# Altium footprint library JP.PcbLib: 182 footprints (part 2 of 12)
Each footprint in its own frame and in the unit in brackets; x right, y up, seen from the top. Pads: shape width x height; smd on the part's side, far side on the other; paste and mask are expansions set on the pad; w line width, h text height; cw(c..) or ccw(c..) is an arc to the next point about the centre after c.
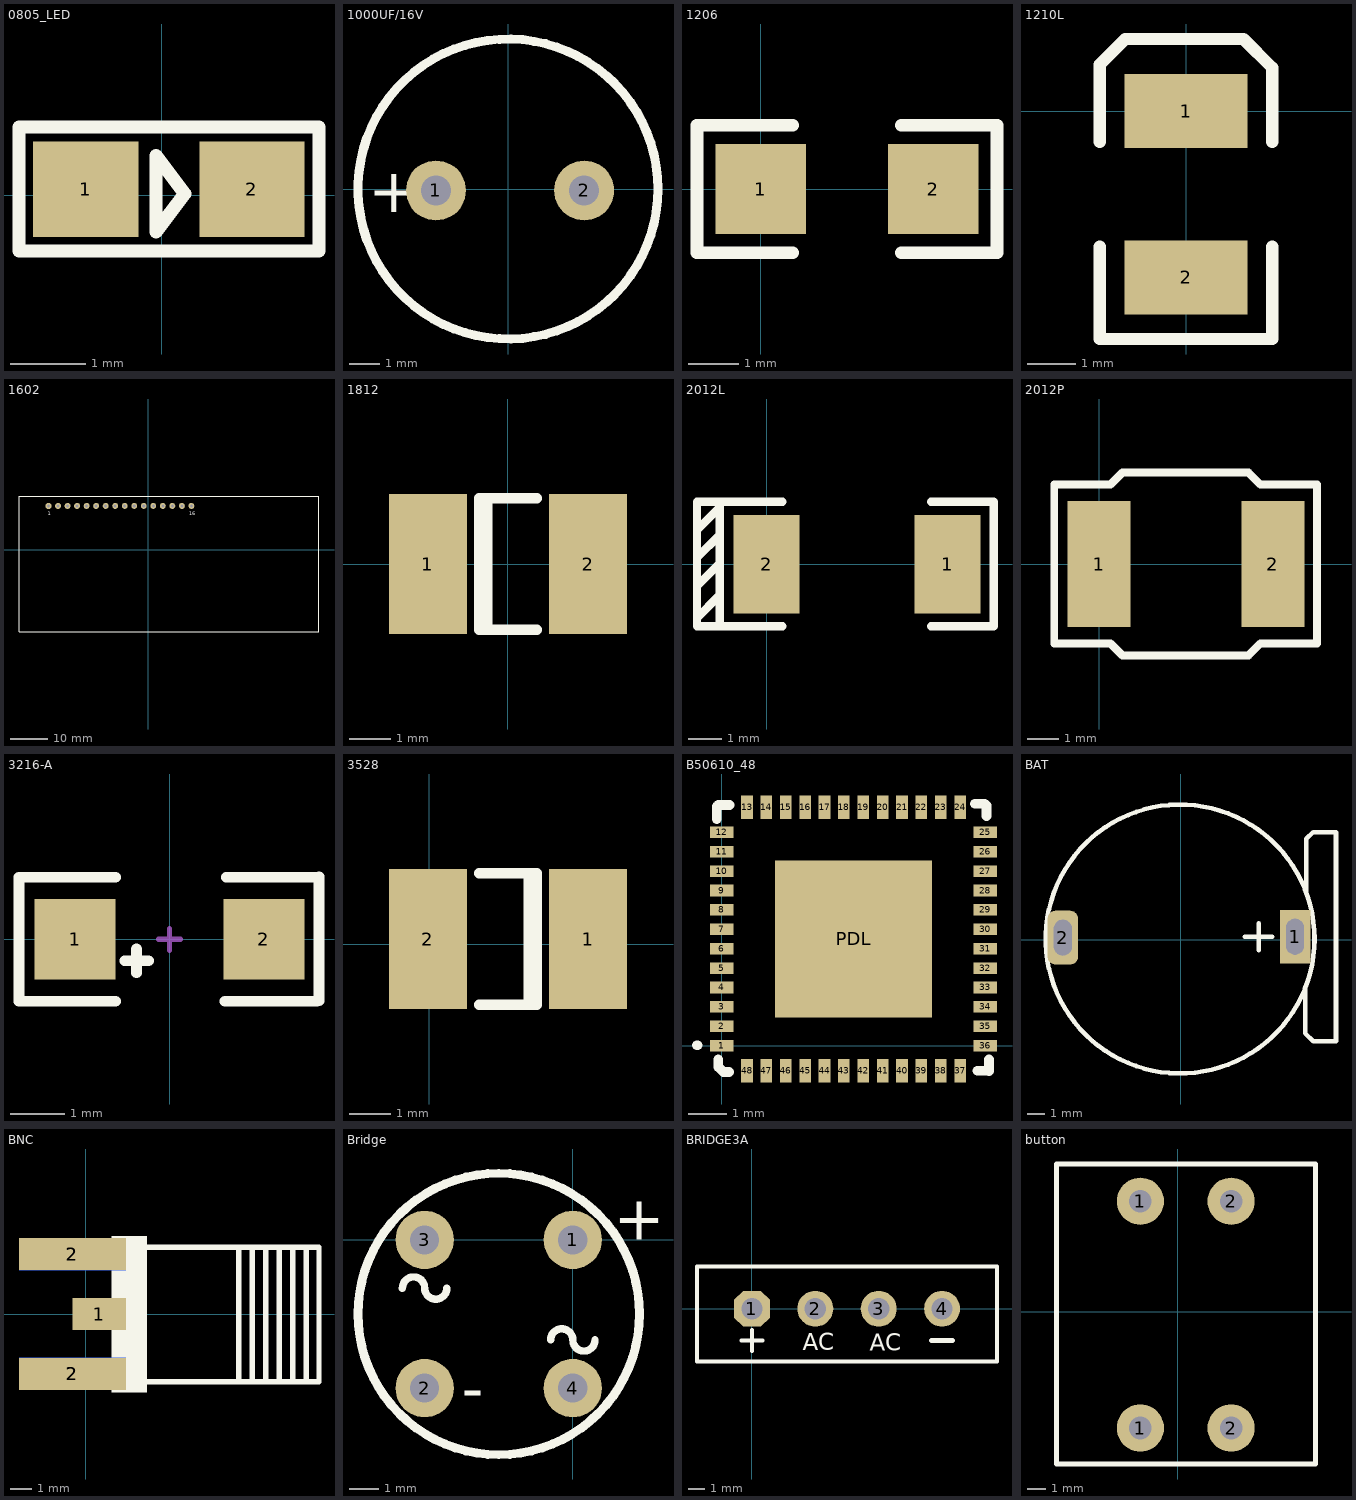
[diagram p1: the footprints below, top view; thin cyan lines are the x and y axes]

## 0805_LED [mm]
height 2
pads (2):
  rect 1.4x1.27 smd: 1(-1.011,0.083) 2(1.199,0.083)
Top Overlay:
  lines w0.178: -1.9,-0.74 -1.9,0.91 2.09,0.91 2.09,-0.74 -1.9,-0.74 ; -0.077,-0.485 -0.077,0.531 0.304,0.023 -0.077,-0.485
3D body: height 2, standoff 0, extent -1.813,-0.654 2,0.82

## 1000UF/16V [mm]
pads (2):
  round 2 hole 1: 1(-2.41,-0.04) 2(2.53,-0.04)
Top Overlay:
  circle w0.3: c-0.01,0.01 r5
  text "+" at -4.66,-0.77 h1.5

## 1206 [mm]
height 2.1
pads (2):
  rect 1.8x1.8 smd: 1(0,0) 2(3.429,0)
Top Overlay:
  lines w0.254: 0.635,-1.27 -1.27,-1.27 -1.27,1.27 0.635,1.27 ; 2.794,-1.27 4.699,-1.27 4.699,1.27 2.794,1.27

## 1210L [mil]
height 82.68
pads (2):
  rect 100x60 smd: 1(0,0) 2(0,-135)
Top Overlay:
  lines w10: -70,-110 -70,-185 70,-185 70,-110 ; -70,-25 -70,37.77 -49.25,58.51 46.66,58.51 70,35.17 70,-25

## 1602 [mil]
height 393.7
pads (16):
  oct 62x62 hole 32: 1(-1047.48,460.79)
  round 62 hole 32: 2(-947.48,460.79) 3(-847.48,460.79) 4(-747.48,460.79) 5(-647.48,460.79) 6(-547.48,460.79) 7(-447.48,460.79) 8(-347.48,460.79) 9(-247.48,460.79) 10(-147.48,460.79) 11(-47.48,460.79) 12(52.52,460.79) 13(152.52,460.79) 14(252.52,460.79) 15(352.52,460.79) 16(452.52,460.79)
Top Overlay:
  lines w9.84: -1357.48,-859.21 -1357.48,560.79 1792.52,560.79 1792.52,-859.21 -1357.48,-859.21
  text "16" at 432.52,360.79 h40
  text "1" at -1057.48,360.79 h40

## 1812 [mm] "Chip Capacitor; Body 4.5 x 3.2 mm (LxW typ)"
height 1.1
pads (2):
  rect 1.9x3.4 smd: 1(-1.95,0) 2(1.95,0)
Top Overlay:
  lines w0.254: -0.51,-1.6 -0.51,1.6 ; 0.7,-1.6 -0.7,-1.6 -0.7,1.6 0.7,1.6
3D body: height 4, standoff 0, extent -3.002,-1.802 3.002,1.802

## 2012L [mm]
height 2.1
pads (2):
  rect 2x3 smd: 1(5.5,0) 2(0,0)
Top Overlay:
  lines w0.254: -2.116,-1.626 -1.456,-0.965 ; -2.116,-0.66 -1.421,0.035 ; -2.116,0.203 -1.421,0.898 ; -2.116,1.041 -1.421,1.737 ; -1.428,-1.88 -2.116,-1.88 -2.116,1.905 -1.421,1.905 ; 0.484,-1.886 -1.421,-1.886 -1.421,1.905 ; 0.484,1.905 -1.421,1.905 ; 4.996,-1.886 6.901,-1.886 6.901,1.905 4.996,1.905

## 2012P [mm]
height 2.1
pads (2):
  rect 2x4 smd: 1(0,0) 2(5.5,0)
Top Overlay:
  lines w0.25: -1.422,-2.515 0.356,-2.515 0.737,-2.896 4.724,-2.896 5.105,-2.515 6.901,-2.515 6.901,0 6.901,2.515 5.105,2.515 4.724,2.896 0.737,2.896 0.356,2.515 -1.422,2.515 -1.422,-2.515

## 3216-A [mm]
pads (2):
  rect 1.5x1.5 smd: 1(-1.75,0) 2(1.75,0)
Top Overlay:
  lines w0.2: -1,-1.15 -2.79,-1.15 -2.79,1.15 -1,1.15 ; -0.83,-0.4 -0.39,-0.4 ; -0.61,-0.62 -0.61,-0.18 ; 1.03,-1.15 2.73,-1.15 ; 1.05,1.15 2.75,1.15 ; 2.77,-1.14 2.77,1.16
Mechanical 1:
  lines w0.1: -0.2,0 0.2,0 ; 0,-0.2 0,0.2

## 3528 [mm]
pads (2):
  rect 1.9x3.4 smd: 1(3.87,0.127) 2(-0.03,0.127)
Top Overlay:
  lines w0.254: 1.22,-1.473 2.62,-1.473 2.62,1.727 1.22,1.727 ; 2.43,-1.473 2.43,1.727
3D body: height 4, standoff 0, extent -1.082,-1.675 4.922,1.929

## B50610_48 [mm]
pads (49):
  rect 0.6x0.3 smd: 1(0,0) 2(0,0.5) 3(0,1) 4(0,1.5) 5(0,2) 6(0,2.5) 7(0,3) 8(0,3.5) 9(0,4) 10(0,4.5) 11(0,5) 12(0,5.5) 25(6.8,5.5) 26(6.8,5) 27(6.8,4.5) 28(6.8,4) 29(6.8,3.5) 30(6.8,3) 31(6.8,2.5) 32(6.8,2) 33(6.8,1.5) 34(6.8,1) 35(6.8,0.5) 36(6.8,0)
  rect 0.3x0.6 smd: 13(0.65,6.15) 14(1.15,6.15) 15(1.65,6.15) 16(2.15,6.15) 17(2.65,6.15) 18(3.15,6.15) 19(3.65,6.15) 20(4.15,6.15) 21(4.65,6.15) 22(5.15,6.15) 23(5.65,6.15) 24(6.15,6.15) 37(6.15,-0.65) 38(5.65,-0.65) 39(5.15,-0.65) 40(4.65,-0.65) 41(4.15,-0.65) 42(3.65,-0.65) 43(3.15,-0.65) 44(2.65,-0.65) 45(2.15,-0.65) 46(1.65,-0.65) 47(1.15,-0.65) 48(0.65,-0.65)
  rect 4.05x4.05 smd: PDL(3.4,2.75)
Top Overlay:
  lines w0.254: -0.64,0.01 -0.63,0.01 ; -0.13,5.85 -0.13,6.17 -0.09,6.21 0.2,6.21 ; -0.09,-0.36 -0.09,-0.55 0.04,-0.68 0.19,-0.68 ; 6.53,6.24 6.78,6.24 6.83,6.19 6.83,5.92 ; 6.6,-0.65 6.88,-0.65 6.89,-0.66 6.89,-0.36 ; 0.19,-0.68 0.19,-0.68

## BAT [mm]
pads (2):
  rect 1.7x3 hole 1 slot 2 at 90 deg: 1(6.372,0.164)
  rrect50% 1.7x3 hole 1 slot 2 at 90 deg: 2(-6.582,0.114)
Top Overlay:
  circle w0.254: c-0.041,0.037 r7.5
  lines w0.254: 3.578,0.164 5.102,0.164 ; 4.34,-0.598 4.34,0.926 ; 6.944,-2.63 6.944,-5.234 7.388,-5.678 8.658,-5.678 8.658,6.006 7.388,6.006 7.007,5.625 7.007,2.64

## BNC [mm]
pads (5):
  rect 2.5x1.5 smd: 1(0.625,0)
  rect 5x1.5 smd: 2(-0.625,-2.8) 2(-0.625,2.8)
  rect 5x1.5 smd far side: 2(-0.625,-2.8) 2(-0.625,2.8)
Top Overlay:
  rectangle: 1.195,-3.66 2.865,3.65
  lines w0.25: 1.315,-3.17 10.895,-3.17 10.895,3.12 1.335,3.12 ; 7.145,-3.14 7.145,3.12 ; 7.775,-3.14 7.775,3.12 ; 8.405,-3.14 8.405,3.12 ; 9.035,-3.14 9.035,3.12 ; 9.665,-3.14 9.665,3.12 ; 10.295,-3.14 10.295,3.12

## Bridge [mm]
pads (4):
  round 2 hole 1: 1(0,0) 2(-5.08,-5.08) 3(-5.08,0) 4(0,-5.08)
Top Overlay:
  circle w0.305: c-2.54,-2.54 r4.826
  lines w0.254: -5.842,-1.651 cw(c-5.461,-1.651) -5.08,-1.651 ccw(c-4.699,-1.651) -4.318,-1.651 ; -0.762,-3.429 cw(c-0.381,-3.429) 0,-3.429 ccw(c0.381,-3.429) 0.762,-3.429
  text "-" at -3.81,-5.842 h1.52
  text "+" at 1.397,0 h1.52

## BRIDGE3A [mil]
pads (4):
  oct 85x85 hole 50: 1(0,0)
  round 85 hole 50: 2(150,0) 3(300,0) 4(450,0)
Top Overlay:
  lines w9.84: -25,-75 25,-75 ; 0,-100 0,-50 ; -130,-125 580,-125 580,100 -130,100 -130,-125
  lines w12: 425,-75 475,-75
  text "AC" at 278.74,-100 h40
  text "AC" at 120.08,-98.82 h40

## button [mm]
height 1.75
pads (4):
  round 2.5 hole 1.2: 1(-1.981,-6.147) 1(-1.981,5.853) 2(2.819,-6.147) 2(2.819,5.853)
Top Overlay:
  lines w0.254: -6.426,-8.052 -6.426,7.823 7.29,7.823 7.29,-8.052 -6.426,-8.052